# Altium footprint library con-jst2.PCBLIB: 1 footprints
Each footprint in its own frame and in the unit in brackets; x right, y up, seen from the top. Pads: shape width x height; smd on the part's side, far side on the other; paste and mask are expansions set on the pad; w line width, h text height; cw(c..) or ccw(c..) is an arc to the next point about the centre after c.
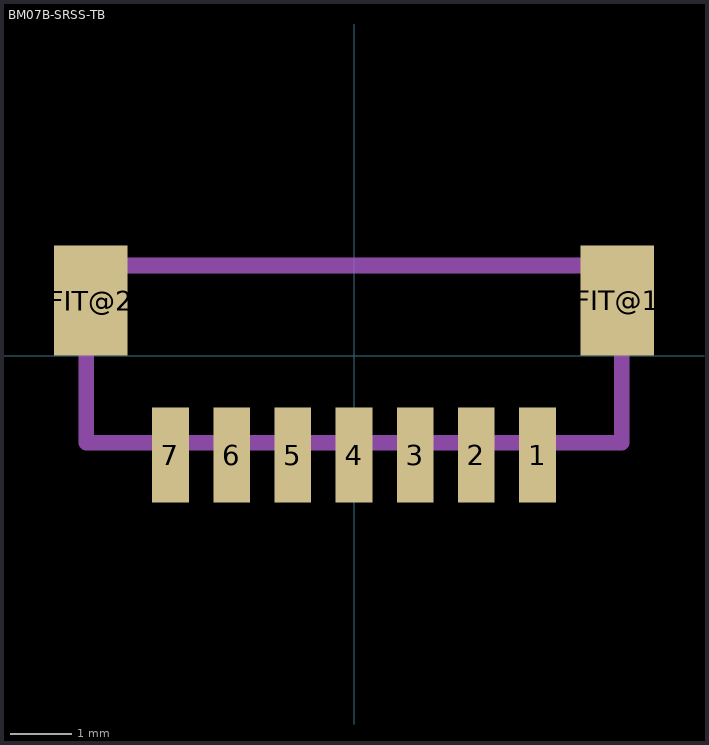
[diagram p0: the footprint, top view; thin cyan lines are the x and y axes]

## BM07B-SRSS-TB [mm]
pads (9):
  rect 0.6x1.55 smd: 1(3,-1.625) 2(2,-1.625) 3(1,-1.625) 4(0,-1.625) 5(-1,-1.625) 6(-2,-1.625) 7(-3,-1.625)
  rect 1.2x1.8 smd: FIT@1(4.3,0.9) FIT@2(-4.3,0.9)
tDocu:
  lines w0.254: -4.373,-1.427 -4.373,1.473 4.373,1.473 4.373,-1.427 -4.373,-1.427
tPlace:
  lines w0.254: -4.373,-0.5 -4.373,-1.427 -4,-1.427 ; -3,1.473 3,1.473 ; 4,-1.427 4.373,-1.427 4.373,-0.5